# EAGLE library part CD4538BCN (library Fairchild_By_element14_Batch_1)
Dual Precision Monostable
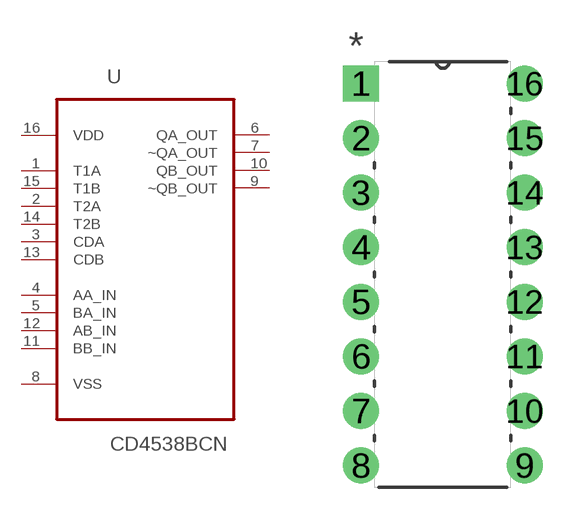
[diagram p174: symbol with the pads of DIP254P762X508-16; footprint DIP254P762X508-16]

Designator prefix U

## CD4538BCN (MPN: CD4538BCN; OC_FARNELL: 1014048; OC_NEWARK: 58K0165; PACKAGE: DIP-16; SUPPLIER: Fairchild)  [DIP254P762X508-16]
1  T1A  in
2  T2A  in
3  CDA  in
4  AA_IN  in
5  BA_IN  in
6  QA_OUT  out
7  ~QA_OUT  out
8  VSS  pwr
9  ~QB_OUT  out
10  QB_OUT  out
11  BB_IN  in
12  AB_IN  in
13  CDB  in
14  T2B  in
15  T1B  in
16  VDD  pwr

## Footprint DIP254P762X508-16 (pad centres in mm)
drill 1.118 square: 1 -7.62,17.78
drill 1.118: 2 -7.62,15.24; 3 -7.62,12.7; 4 -7.62,10.16; 5 -7.62,7.62; 6 -7.62,5.08; 7 -7.62,2.54; 8 -7.62,0; 9 0,0; 10 0,2.54; 11 0,5.08; 12 0,7.62; 13 0,10.16; 14 0,12.7; 15 0,15.24; 16 0,17.78